# Altium integrated library TI Power Management Step-Down Regulator.IntLib: 565 symbols (part 5 of 33)
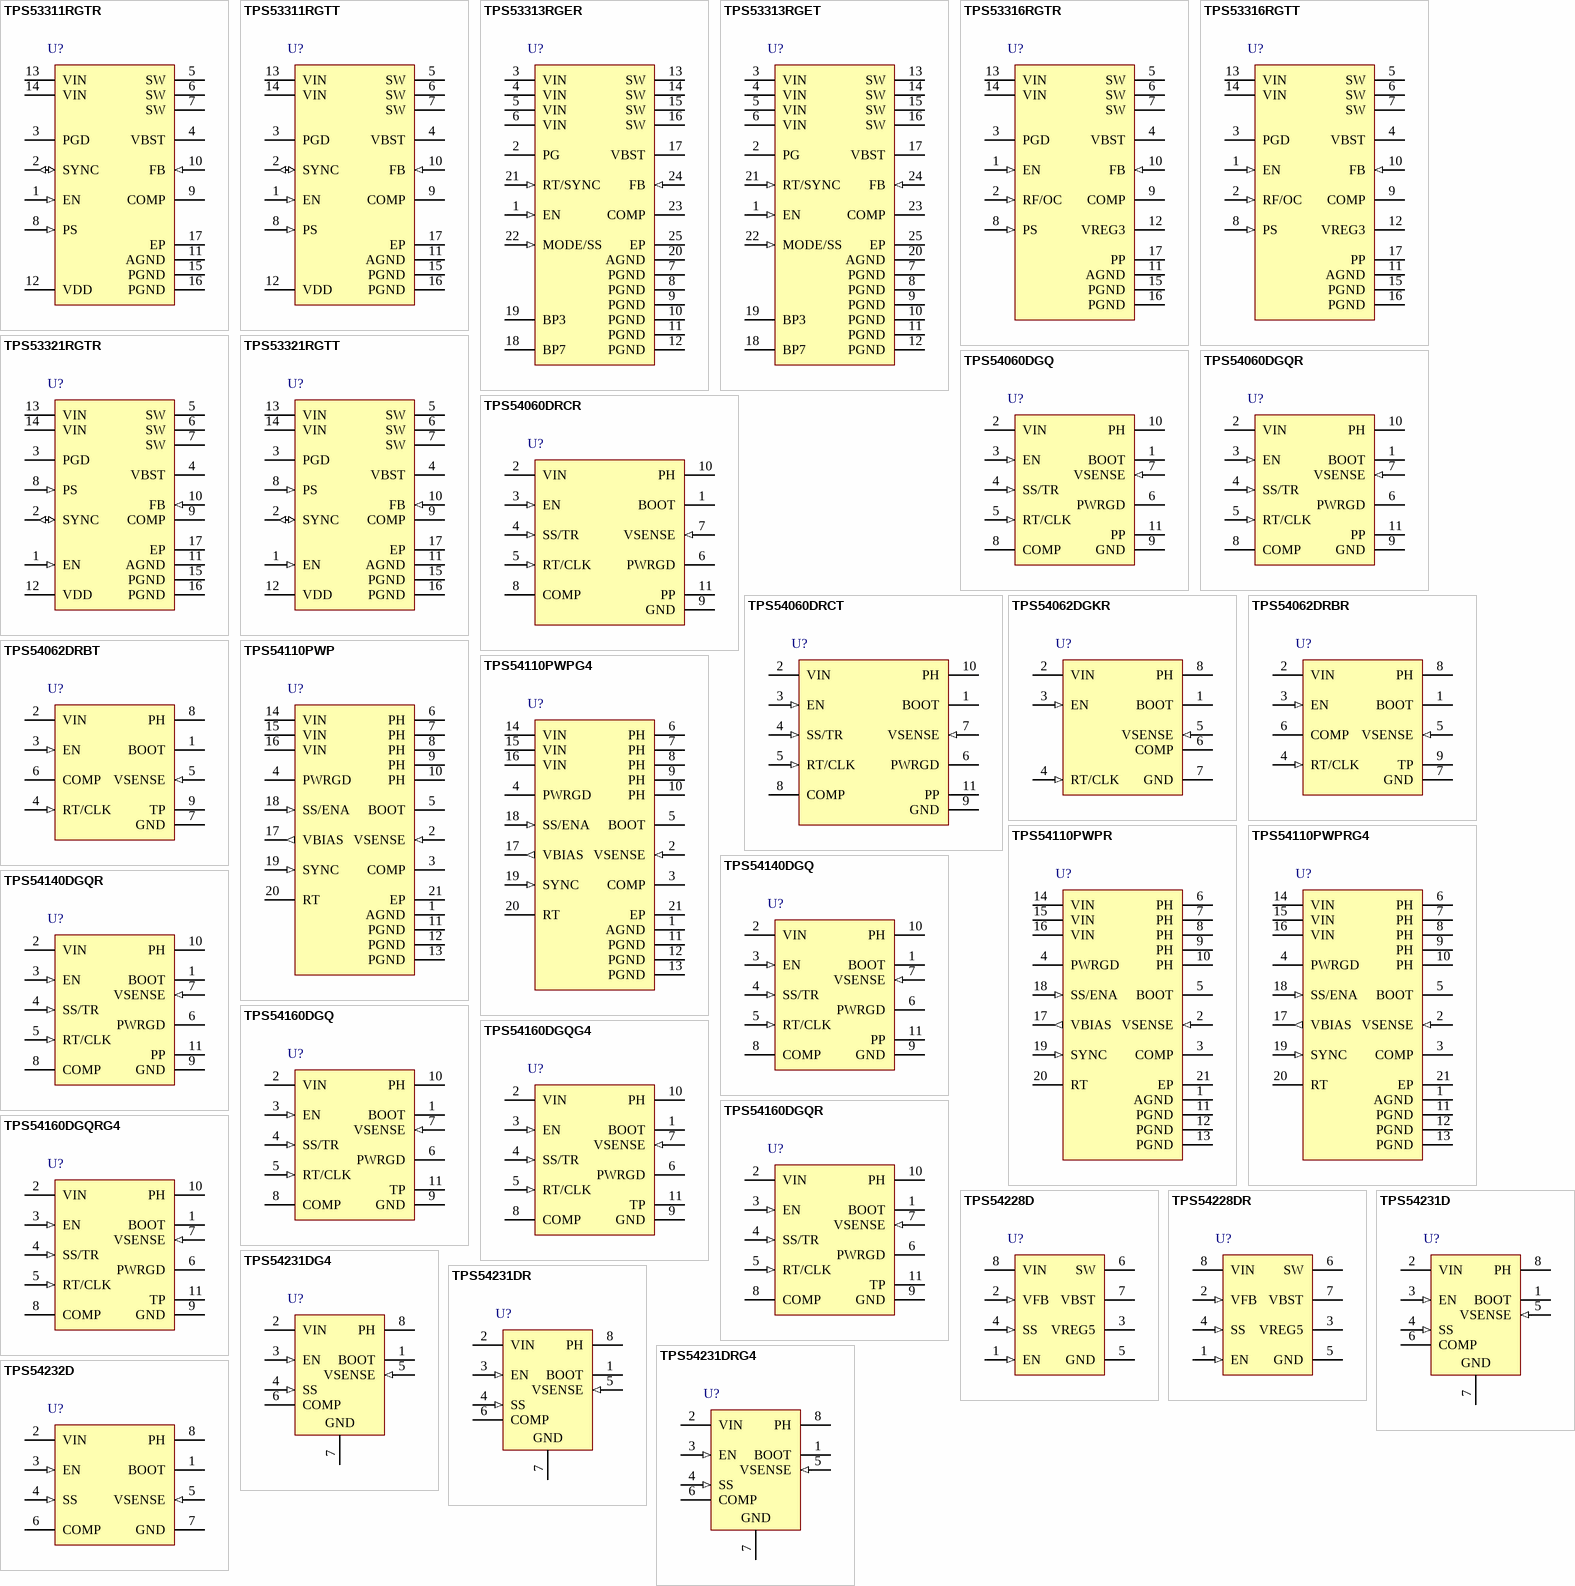
[diagram p23: symbols TPS53311RGTR to TPS54232D]

## TPS54062DRBT
designator U?
Buck Step Down Regulator with 4.7 to 60 V Input and 0.8 to 58 V Output, -40 to 125 degC, 8-Pin SON (DRB), Green (RoHS & no Sb/Br); Manufacturer: Texas Instruments; PartNumber: TPS54062DRBT; Duty Cycle(Max)(%): 98; Iout(Max)(A): 0.05; Iq(Typ)(mA): 0.089; Rating: Catalog; Regulated Outputs(#): 1; SubFamily: Step-Down Regulator; Switch Current Limit(Typ)(A): 0.13; Synchronous Rectification: TRUE; Vin(Max)(V): 60; Vin(Min)(V): 4.7; Vout(Max)(V): 58; Vout(Min)(V): 0.8; DatasheetVersion: SLVSAV1B; PackageVersion: revK, Jun-2012; PackageReference: DRB8-2400X1650TP; PackageDescription: 8-Pin Plastic Small Outline No-Lead, 3 x 3 x 1 mm Body, 0.65 mm Pitch, Exposed Pad; Supplier 1: Digi-Key; Supplier Part Number 1: 296-30078-2-ND; Supplier 7: Mouser; Supplier Part Number 7: 595-TPS54062DRBT; Eco-Plan: Green (RoHS & no Sb/Br); Topology: Buck; Mounting Technology: Surface Mount; ComponentLink1Description: Datasheet; ComponentLink1URL: http://www.ti.com/general/docs/lit/getliterature.tsp?genericPartNumber=TPS54062&fileType=pdf; ComponentLink2Description: Package Specification; ComponentLink2URL: http://www.ti.com/litv/pdf/mpds118h; ComponentLink3Description: URL Link1; ComponentLink3URL: Samples URL:http://www.ti.com/product/tps54611#samples
footprint DRB8-2400X1650TP (SON, 8-Leads, Body 3x3mm, Pitch 0.65mm, Thermal Pad 2.4x1.65mm, TI Recommended)
pins: 1 BOOT "A bootstrap capacitor is required between BOOT and PH. If the voltage on this capacitor is below the minimum required by the output device, the output is forced to switch off until the capacitor is refreshed.", 2 VIN (power) "Input supply voltage, 4.7 V to 60 V.", 3 EN (in) "Enable pin, internal pull-up current source. Pull below 1.14 V to disable. Float to enable. Adjust the input undervoltage lockout with two resistors, see the Enable and Adjusting Undervoltage Lockout section", 4 RT/CLK (in) "Resistor Timing and External Clock. An internal amplifier holds this pin at a fixed voltage when using an external resistor to ground to set the switching frequency. If the pin is pulled above the PLL upper threshold, a mode (See Datasheet)", 5 VSENSE (in) "Inverting input of the transconductance (gm) error amplifier.", 6 COMP "Error amplifier output, and input to the output switch current comparator. Connect frequency compensation components to this pin.", 7 GND (power) "Ground", 8 PH (power) "The source of the internal high-side power MOSFET and drain of the internal low side MOSFET", 9 TP (power) "GND pin must be electrically connected to the exposed pad on the printed circuit board for proper operation."

## TPS54110PWP
designator U?
Buck Step Down Regulator with 3 to 6 V Input and 0.9 to 4.5 V Output, -40 to 85 degC, 20-Pin HTSSOP (PWP), Green (RoHS & no Sb/Br); Manufacturer: Texas Instruments; PartNumber: TPS54110PWP; Duty Cycle(Max)(%): 90; Iout(Max)(A): 1.5; Iq(Typ)(mA): 4.2; Rating: Catalog; Regulated Outputs(#): 1; SubFamily: Step-Down Regulator; Switch Current Limit(Typ)(A): 3; Synchronous Rectification: TRUE; Vin(Max)(V): 6; Vout(Max)(V): 4.5; Vout(Min)(V): 0.9; DatasheetVersion: SLVS500C; PackageVersion: revI, May-2011; PackageReference: PWP20-3005X2005TP; PackageDescription: 20-Pin PowerPAD Plastic Small Outline 6.5 x 4.4 mm Body ,0.65 mm Pitch, Exposed Pad; Supplier 1: Digi-Key; Supplier Part Number 1: 296-17086-ND; Eco-Plan: Green (RoHS & no Sb/Br); Topology: Buck; Vin(Min)(V): 3; Mounting Technology: Surface Mount; Code_JEDEC: MO-153; ComponentLink1Description: Datasheet; ComponentLink1URL: http://www.ti.com/general/docs/lit/getliterature.tsp?genericPartNumber=TPS54110&fileType=pdf; ComponentLink2Description: Package Specification; ComponentLink2URL: http://www.ti.com/lit/ml/mhts001g/mhts001g.pdf; ComponentLink3Description: URL Link1; ComponentLink3URL: Samples URL:http://www.ti.com/product/tps54110#samples
footprint PWP20-3005X2005TP_N (TSOP, 20-Leads, Body 6.5x4.4mm, Pitch 0.65mm, Thermal Pad 3.7x2.4 mm, IPC Medium Density)
footprint PWP20-3005X2005TP_L (TSOP, 20-Leads, Body 6.5x4.4mm, Pitch 0.65mm, Thermal Pad 3.7x2.4 mm, IPC High Density)
footprint PWP20-3005X2005TP_M (TSOP, 20-Leads, Body 6.5x4.4mm, Pitch 0.65mm, Thermal Pad 3.7x2.4 mm, IPC Low Density)
pins: 1 AGND (power) "Analog ground--internally connected to the sensitive analog-ground circuitry. Connect to PGND and PowerPAD.", 2 VSENSE (in) "Error amplifier inverting input.", 3 COMP "Error amplifier output. Connect compensation network from COMP to VSENSE.", 4 PWRGD (oc) "Power-good open drain output. High when VSENSE >= 93% Vref, otherwise PWRGD is low. Note that output is low when SS/ENA is low or internal shutdown signal active.", 5 BOOT "Bootstrap input. 0.022-uF to 0.1-uF low-ESR capacitor connected from BOOT to PH generates floating drive for the high-side FET driver.", 6 PH (power) "Phase input/output. Junction of the internal high and low-side power MOSFETs, and output inductor.", 7 PH (power) "Phase input/output. Junction of the internal high and low-side power MOSFETs, and output inductor.", 8 PH (power) "Phase input/output. Junction of the internal high and low-side power MOSFETs, and output inductor.", 9 PH (power) "Phase input/output. Junction of the internal high and low-side power MOSFETs, and output inductor.", 10 PH (power) "Phase input/output. Junction of the internal high and low-side power MOSFETs, and output inductor.", 11 PGND (power) "Power ground. High current return for the low-side driver and power MOSFET. Connect PGND with large copper areas to the input and output supply returns, and negative terminals of the input and output capacitors. Connect to (See Datasheet)", 12 PGND (power) "Power ground. High current return for the low-side driver and power MOSFET. Connect PGND with large copper areas to the input and output supply returns, and negative terminals of the input and output capacitors. Connect to (See Datasheet)", 13 PGND (power) "Power ground. High current return for the low-side driver and power MOSFET. Connect PGND with large copper areas to the input and output supply returns, and negative terminals of the input and output capacitors. Connect to (See Datasheet)", 14 VIN (power) "Input supply for the power MOSFET switches and internal bias regulator. Bypass VIN pins to PGND pins close to device package with a high quality, low ESR 1-uF to 10-uF ceramic capacitor.", 15 VIN (power) "Input supply for the power MOSFET switches and internal bias regulator. Bypass VIN pins to PGND pins close to device package with a high quality, low ESR 1-uF to 10-uF ceramic capacitor.", 16 VIN (power) "Input supply for the power MOSFET switches and internal bias regulator. Bypass VIN pins to PGND pins close to device package with a high quality, low ESR 1-uF to 10-uF ceramic capacitor.", 17 VBIAS (out) "Internal bias regulator output. Supplies regulated voltage to internal circuitry. Bypass VBIAS pin to AGND pin with a high quality, low ESR 0.1-uF to 1.0-uF ceramic capacitor.", 18 SS/ENA (in) "Slow-start/enable input/output. Dual-function pin that provides logic input to enable/disable device operation and capacitor input to externally set the start-up time.", 19 SYNC (in) "Synchronization input. Dual-function pin that provides logic input to synchronize to an external oscillator or pin select between two internally set switching frequencies. When used to synchronize to an external signal, a (See Datasheet)", 20 RT "Frequency setting resistor input. Connect a resistor from RT to AGND to set the switching frequency, fs.", 21 EP (power) "exposed Thermal Pad."

## TPS54110PWPG4
designator U?
Buck Step Down Regulator with 3 to 6 V Input and 0.9 to 4.5 V Output, -40 to 85 degC, 20-Pin HTSSOP (PWP), Green (RoHS & no Sb/Br); Manufacturer: Texas Instruments; PartNumber: TPS54110PWPG4; Duty Cycle(Max)(%): 90; Iout(Max)(A): 1.5; Iq(Typ)(mA): 4.2; Rating: Catalog; Regulated Outputs(#): 1; SubFamily: Step-Down Regulator; Switch Current Limit(Typ)(A): 3; Synchronous Rectification: TRUE; Vin(Max)(V): 6; Vout(Max)(V): 4.5; Vout(Min)(V): 0.9; DatasheetVersion: SLVS500C; PackageVersion: revI, May-2011; PackageReference: PWP20-3005X2005TP; PackageDescription: 20-Pin PowerPAD Plastic Small Outline 6.5 x 4.4 mm Body ,0.65 mm Pitch, Exposed Pad; Supplier 1: Digi-Key; Supplier Part Number 1: TPS54110PWPG4-ND; Eco-Plan: Green (RoHS & no Sb/Br); Topology: Buck; Vin(Min)(V): 3; Mounting Technology: Surface Mount; Code_JEDEC: MO-153; ComponentLink1Description: Datasheet; ComponentLink1URL: http://www.ti.com/general/docs/lit/getliterature.tsp?genericPartNumber=TPS54110&fileType=pdf; ComponentLink2Description: Package Specification; ComponentLink2URL: http://www.ti.com/lit/ml/mhts001g/mhts001g.pdf; ComponentLink3Description: URL Link1; ComponentLink3URL: Samples URL:http://www.ti.com/product/tps54110#samples
footprint PWP20-3005X2005TP_N (TSOP, 20-Leads, Body 6.5x4.4mm, Pitch 0.65mm, Thermal Pad 3.7x2.4 mm, IPC Medium Density)
footprint PWP20-3005X2005TP_L (TSOP, 20-Leads, Body 6.5x4.4mm, Pitch 0.65mm, Thermal Pad 3.7x2.4 mm, IPC High Density)
footprint PWP20-3005X2005TP_M (TSOP, 20-Leads, Body 6.5x4.4mm, Pitch 0.65mm, Thermal Pad 3.7x2.4 mm, IPC Low Density)
pins: 1 AGND (power) "Analog ground--internally connected to the sensitive analog-ground circuitry. Connect to PGND and PowerPAD.", 2 VSENSE (in) "Error amplifier inverting input.", 3 COMP "Error amplifier output. Connect compensation network from COMP to VSENSE.", 4 PWRGD (oc) "Power-good open drain output. High when VSENSE >= 93% Vref, otherwise PWRGD is low. Note that output is low when SS/ENA is low or internal shutdown signal active.", 5 BOOT "Bootstrap input. 0.022-uF to 0.1-uF low-ESR capacitor connected from BOOT to PH generates floating drive for the high-side FET driver.", 6 PH (power) "Phase input/output. Junction of the internal high and low-side power MOSFETs, and output inductor.", 7 PH (power) "Phase input/output. Junction of the internal high and low-side power MOSFETs, and output inductor.", 8 PH (power) "Phase input/output. Junction of the internal high and low-side power MOSFETs, and output inductor.", 9 PH (power) "Phase input/output. Junction of the internal high and low-side power MOSFETs, and output inductor.", 10 PH (power) "Phase input/output. Junction of the internal high and low-side power MOSFETs, and output inductor.", 11 PGND (power) "Power ground. High current return for the low-side driver and power MOSFET. Connect PGND with large copper areas to the input and output supply returns, and negative terminals of the input and output capacitors. Connect to (See Datasheet)", 12 PGND (power) "Power ground. High current return for the low-side driver and power MOSFET. Connect PGND with large copper areas to the input and output supply returns, and negative terminals of the input and output capacitors. Connect to (See Datasheet)", 13 PGND (power) "Power ground. High current return for the low-side driver and power MOSFET. Connect PGND with large copper areas to the input and output supply returns, and negative terminals of the input and output capacitors. Connect to (See Datasheet)", 14 VIN (power) "Input supply for the power MOSFET switches and internal bias regulator. Bypass VIN pins to PGND pins close to device package with a high quality, low ESR 1-uF to 10-uF ceramic capacitor.", 15 VIN (power) "Input supply for the power MOSFET switches and internal bias regulator. Bypass VIN pins to PGND pins close to device package with a high quality, low ESR 1-uF to 10-uF ceramic capacitor.", 16 VIN (power) "Input supply for the power MOSFET switches and internal bias regulator. Bypass VIN pins to PGND pins close to device package with a high quality, low ESR 1-uF to 10-uF ceramic capacitor.", 17 VBIAS (out) "Internal bias regulator output. Supplies regulated voltage to internal circuitry. Bypass VBIAS pin to AGND pin with a high quality, low ESR 0.1-uF to 1.0-uF ceramic capacitor.", 18 SS/ENA (in) "Slow-start/enable input/output. Dual-function pin that provides logic input to enable/disable device operation and capacitor input to externally set the start-up time.", 19 SYNC (in) "Synchronization input. Dual-function pin that provides logic input to synchronize to an external oscillator or pin select between two internally set switching frequencies. When used to synchronize to an external signal, a (See Datasheet)", 20 RT "Frequency setting resistor input. Connect a resistor from RT to AGND to set the switching frequency, fs.", 21 EP (power) "exposed Thermal Pad."

## TPS54110PWPR
designator U?
Buck Step Down Regulator with 3 to 6 V Input and 0.9 to 4.5 V Output, -40 to 85 degC, 20-Pin HTSSOP (PWP), Green (RoHS & no Sb/Br); Manufacturer: Texas Instruments; PartNumber: TPS54110PWPR; Duty Cycle(Max)(%): 90; Iout(Max)(A): 1.5; Iq(Typ)(mA): 4.2; Rating: Catalog; Regulated Outputs(#): 1; SubFamily: Step-Down Regulator; Switch Current Limit(Typ)(A): 3; Synchronous Rectification: TRUE; Vin(Max)(V): 6; Vout(Max)(V): 4.5; Vout(Min)(V): 0.9; DatasheetVersion: SLVS500C; PackageVersion: revI, May-2011; PackageReference: PWP20-3005X2005TP; PackageDescription: 20-Pin PowerPAD Plastic Small Outline 6.5 x 4.4 mm Body ,0.65 mm Pitch, Exposed Pad; Supplier 1: Digi-Key; Supplier Part Number 1: 296-26983-2-ND; Eco-Plan: Green (RoHS & no Sb/Br); Topology: Buck; Vin(Min)(V): 3; Mounting Technology: Surface Mount; Code_JEDEC: MO-153; ComponentLink1Description: Datasheet; ComponentLink1URL: http://www.ti.com/general/docs/lit/getliterature.tsp?genericPartNumber=TPS54110&fileType=pdf; ComponentLink2Description: Package Specification; ComponentLink2URL: http://www.ti.com/lit/ml/mhts001g/mhts001g.pdf; ComponentLink3Description: URL Link1; ComponentLink3URL: Samples URL:http://www.ti.com/product/tps54110#samples
footprint PWP20-3005X2005TP_N (TSOP, 20-Leads, Body 6.5x4.4mm, Pitch 0.65mm, Thermal Pad 3.7x2.4 mm, IPC Medium Density)
footprint PWP20-3005X2005TP_L (TSOP, 20-Leads, Body 6.5x4.4mm, Pitch 0.65mm, Thermal Pad 3.7x2.4 mm, IPC High Density)
footprint PWP20-3005X2005TP_M (TSOP, 20-Leads, Body 6.5x4.4mm, Pitch 0.65mm, Thermal Pad 3.7x2.4 mm, IPC Low Density)
pins: 1 AGND (power) "Analog ground--internally connected to the sensitive analog-ground circuitry. Connect to PGND and PowerPAD.", 2 VSENSE (in) "Error amplifier inverting input.", 3 COMP "Error amplifier output. Connect compensation network from COMP to VSENSE.", 4 PWRGD (oc) "Power-good open drain output. High when VSENSE >= 93% Vref, otherwise PWRGD is low. Note that output is low when SS/ENA is low or internal shutdown signal active.", 5 BOOT "Bootstrap input. 0.022-uF to 0.1-uF low-ESR capacitor connected from BOOT to PH generates floating drive for the high-side FET driver.", 6 PH (power) "Phase input/output. Junction of the internal high and low-side power MOSFETs, and output inductor.", 7 PH (power) "Phase input/output. Junction of the internal high and low-side power MOSFETs, and output inductor.", 8 PH (power) "Phase input/output. Junction of the internal high and low-side power MOSFETs, and output inductor.", 9 PH (power) "Phase input/output. Junction of the internal high and low-side power MOSFETs, and output inductor.", 10 PH (power) "Phase input/output. Junction of the internal high and low-side power MOSFETs, and output inductor.", 11 PGND (power) "Power ground. High current return for the low-side driver and power MOSFET. Connect PGND with large copper areas to the input and output supply returns, and negative terminals of the input and output capacitors. Connect to (See Datasheet)", 12 PGND (power) "Power ground. High current return for the low-side driver and power MOSFET. Connect PGND with large copper areas to the input and output supply returns, and negative terminals of the input and output capacitors. Connect to (See Datasheet)", 13 PGND (power) "Power ground. High current return for the low-side driver and power MOSFET. Connect PGND with large copper areas to the input and output supply returns, and negative terminals of the input and output capacitors. Connect to (See Datasheet)", 14 VIN (power) "Input supply for the power MOSFET switches and internal bias regulator. Bypass VIN pins to PGND pins close to device package with a high quality, low ESR 1-uF to 10-uF ceramic capacitor.", 15 VIN (power) "Input supply for the power MOSFET switches and internal bias regulator. Bypass VIN pins to PGND pins close to device package with a high quality, low ESR 1-uF to 10-uF ceramic capacitor.", 16 VIN (power) "Input supply for the power MOSFET switches and internal bias regulator. Bypass VIN pins to PGND pins close to device package with a high quality, low ESR 1-uF to 10-uF ceramic capacitor.", 17 VBIAS (out) "Internal bias regulator output. Supplies regulated voltage to internal circuitry. Bypass VBIAS pin to AGND pin with a high quality, low ESR 0.1-uF to 1.0-uF ceramic capacitor.", 18 SS/ENA (in) "Slow-start/enable input/output. Dual-function pin that provides logic input to enable/disable device operation and capacitor input to externally set the start-up time.", 19 SYNC (in) "Synchronization input. Dual-function pin that provides logic input to synchronize to an external oscillator or pin select between two internally set switching frequencies. When used to synchronize to an external signal, a (See Datasheet)", 20 RT "Frequency setting resistor input. Connect a resistor from RT to AGND to set the switching frequency, fs.", 21 EP (power) "exposed Thermal Pad."

## TPS54110PWPRG4
designator U?
Buck Step Down Regulator with 3 to 6 V Input and 0.9 to 4.5 V Output, -40 to 85 degC, 20-Pin HTSSOP (PWP), Green (RoHS & no Sb/Br); Manufacturer: Texas Instruments; PartNumber: TPS54110PWPRG4; Duty Cycle(Max)(%): 90; Iout(Max)(A): 1.5; Iq(Typ)(mA): 4.2; Rating: Catalog; Regulated Outputs(#): 1; SubFamily: Step-Down Regulator; Switch Current Limit(Typ)(A): 3; Synchronous Rectification: TRUE; Vin(Max)(V): 6; Vout(Max)(V): 4.5; Vout(Min)(V): 0.9; DatasheetVersion: SLVS500C; PackageVersion: revI, May-2011; PackageReference: PWP20-3005X2005TP; PackageDescription: 20-Pin PowerPAD Plastic Small Outline 6.5 x 4.4 mm Body ,0.65 mm Pitch, Exposed Pad; Supplier 1: Digi-Key; Supplier Part Number 1: TPS54110PWPRG4-ND; Eco-Plan: Green (RoHS & no Sb/Br); Topology: Buck; Vin(Min)(V): 3; Mounting Technology: Surface Mount; Code_JEDEC: MO-153; ComponentLink1Description: Datasheet; ComponentLink1URL: http://www.ti.com/general/docs/lit/getliterature.tsp?genericPartNumber=TPS54110&fileType=pdf; ComponentLink2Description: Package Specification; ComponentLink2URL: http://www.ti.com/lit/ml/mhts001g/mhts001g.pdf; ComponentLink3Description: URL Link1; ComponentLink3URL: Samples URL:http://www.ti.com/product/tps54611#samples
footprint PWP20-3005X2005TP_N (TSOP, 20-Leads, Body 6.5x4.4mm, Pitch 0.65mm, Thermal Pad 3.7x2.4 mm, IPC Medium Density)
footprint PWP20-3005X2005TP_L (TSOP, 20-Leads, Body 6.5x4.4mm, Pitch 0.65mm, Thermal Pad 3.7x2.4 mm, IPC High Density)
footprint PWP20-3005X2005TP_M (TSOP, 20-Leads, Body 6.5x4.4mm, Pitch 0.65mm, Thermal Pad 3.7x2.4 mm, IPC Low Density)
pins: 1 AGND (power) "Analog ground--internally connected to the sensitive analog-ground circuitry. Connect to PGND and PowerPAD.", 2 VSENSE (in) "Error amplifier inverting input.", 3 COMP "Error amplifier output. Connect compensation network from COMP to VSENSE.", 4 PWRGD (oc) "Power-good open drain output. High when VSENSE >= 93% Vref, otherwise PWRGD is low. Note that output is low when SS/ENA is low or internal shutdown signal active.", 5 BOOT "Bootstrap input. 0.022-uF to 0.1-uF low-ESR capacitor connected from BOOT to PH generates floating drive for the high-side FET driver.", 6 PH (power) "Phase input/output. Junction of the internal high and low-side power MOSFETs, and output inductor.", 7 PH (power) "Phase input/output. Junction of the internal high and low-side power MOSFETs, and output inductor.", 8 PH (power) "Phase input/output. Junction of the internal high and low-side power MOSFETs, and output inductor.", 9 PH (power) "Phase input/output. Junction of the internal high and low-side power MOSFETs, and output inductor.", 10 PH (power) "Phase input/output. Junction of the internal high and low-side power MOSFETs, and output inductor.", 11 PGND (power) "Power ground. High current return for the low-side driver and power MOSFET. Connect PGND with large copper areas to the input and output supply returns, and negative terminals of the input and output capacitors. Connect to (See Datasheet)", 12 PGND (power) "Power ground. High current return for the low-side driver and power MOSFET. Connect PGND with large copper areas to the input and output supply returns, and negative terminals of the input and output capacitors. Connect to (See Datasheet)", 13 PGND (power) "Power ground. High current return for the low-side driver and power MOSFET. Connect PGND with large copper areas to the input and output supply returns, and negative terminals of the input and output capacitors. Connect to (See Datasheet)", 14 VIN (power) "Input supply for the power MOSFET switches and internal bias regulator. Bypass VIN pins to PGND pins close to device package with a high quality, low ESR 1-uF to 10-uF ceramic capacitor.", 15 VIN (power) "Input supply for the power MOSFET switches and internal bias regulator. Bypass VIN pins to PGND pins close to device package with a high quality, low ESR 1-uF to 10-uF ceramic capacitor.", 16 VIN (power) "Input supply for the power MOSFET switches and internal bias regulator. Bypass VIN pins to PGND pins close to device package with a high quality, low ESR 1-uF to 10-uF ceramic capacitor.", 17 VBIAS (out) "Internal bias regulator output. Supplies regulated voltage to internal circuitry. Bypass VBIAS pin to AGND pin with a high quality, low ESR 0.1-uF to 1.0-uF ceramic capacitor.", 18 SS/ENA (in) "Slow-start/enable input/output. Dual-function pin that provides logic input to enable/disable device operation and capacitor input to externally set the start-up time.", 19 SYNC (in) "Synchronization input. Dual-function pin that provides logic input to synchronize to an external oscillator or pin select between two internally set switching frequencies. When used to synchronize to an external signal, a (See Datasheet)", 20 RT "Frequency setting resistor input. Connect a resistor from RT to AGND to set the switching frequency, fs.", 21 EP (power) "exposed Thermal Pad."

## TPS54140DGQ
designator U?
Buck Inverting Buck-Boost Step Down Regulator with 3.5 to 42 V Input and 0.8 to 39 V Output, -40 to 150 degC, 10-Pin MSOP-PowerPAD (DGQ), Green (RoHS & no Sb/Br); Manufacturer: Texas Instruments; PartNumber: TPS54140DGQ; Duty Cycle(Max)(%): 98; Iout(Max)(A): 1.5; Iq(Typ)(mA): 0.116; Rating: Catalog; Regulated Outputs(#): 1; SubFamily: Step-Down Regulator; Switch Current Limit(Typ)(A): 1.8; Topology: Buck, Inverting Buck-Boost; Vin(Max)(V): 42; Vin(Min)(V): 3.5; Vout(Max)(V): 39; Vout(Min)(V): 0.8; DatasheetVersion: SLVS889A; PackageVersion: revF, Nov-2011; PackageReference: DGQ10-1675X1445TP; PackageDescription: 10-Pin PowerPAD Plastic Small Outline 0.5 mm Pitch, Exposed Pad; Supplier 1: Digi-Key; Supplier Part Number 1: 296-23970-5-ND; Eco-Plan: Green (RoHS & no Sb/Br); Mounting Technology: Surface Mount; Code_JEDEC: MO-187-BA-T; ComponentLink1Description: Datasheet; ComponentLink1URL: http://www.ti.com/general/docs/lit/getliterature.tsp?genericPartNumber=TPS54140&fileType=pdf; ComponentLink2Description: Package Specification; ComponentLink2URL: http://www.ti.com/lit/ml/mpds043e/mpds043e.pdf; ComponentLink3Description: URL Link1; ComponentLink3URL: Samples URL:http://www.ti.com/product/tps54140#samples
footprint DGQ10-1675X1445TP_N (TSSOP, 10-Leads, Body 3x3mm, Pitch 0.5mm, Thermal Pad 1.88x1.57mm, IPC Medium Density)
footprint DGQ10-1675X1445TP_L (TSSOP, 10-Leads, Body 3x3mm, Pitch 0.5mm, Thermal Pad 1.88x1.57mm, IPC High Density)
footprint DGQ10-1675X1445TP_M (TSSOP, 10-Leads, Body 3x3mm, Pitch 0.5mm, Thermal Pad 1.88x1.57mm, IPC Low Density)
pins: 1 BOOT "A bootstrap capacitor is required between BOOT and PH. If the voltage on this capacitor is below the minimum required by the device, the output is forced to switch off until the capacitor is refreshed.", 2 VIN (power) "Input supply voltage, 3.5 V to 42 V.", 3 EN (in) "Enable pin, internal pull-up current source. Pull below 1.2V to disable. Float to enable. Adjust the input undervoltage lockout with two resistors.", 4 SS/TR (in) "Slow-start and Tracking. An external capacitor connected to this pin sets the output rise time. Since the voltage on this pin overrides the internal reference, it can be used for tracking and sequencing.", 5 RT/CLK (in) "Resistor Timing and External Clock. An internal amplifier holds this pin at a fixed voltage when using an external resistor to ground to set the switching frequency. If the pin is pulled above the PLL upper threshold,a mode (See Datasheet)", 6 PWRGD (oc) "An open drain output, asserts low if output voltage is low due to thermal shutdown, dropout, over-voltage or EN shut down.", 7 VSENSE (in) "Inverting node of the transconductance ( gm) error amplifier.", 8 COMP "Error amplifier output, and input to the output switch current comparator. Connect frequency compensation components to this pin.", 9 GND (power) "Ground", 10 PH (power) "The source of the internal high-side power MOSFET.", 11 PP (power) "GND pin must be electrically connected to the exposed pad on the printed circuit board for proper operation."

## TPS54140DGQR
designator U?
Buck Inverting Buck-Boost Step Down Regulator with 3.5 to 42 V Input and 0.8 to 39 V Output, -40 to 150 degC, 10-Pin MSOP-PowerPAD (DGQ), Green (RoHS & no Sb/Br); Manufacturer: Texas Instruments; PartNumber: TPS54140DGQR; Duty Cycle(Max)(%): 98; Iout(Max)(A): 1.5; Iq(Typ)(mA): 0.116; Rating: Catalog; Regulated Outputs(#): 1; SubFamily: Step-Down Regulator; Switch Current Limit(Typ)(A): 7.2; Topology: Buck,Inverting Buck-Boost; Vin(Max)(V): 42; Vin(Min)(V): 3.5; Vout(Max)(V): 39; Vout(Min)(V): 0.8; DatasheetVersion: SLVS889A; PackageVersion: revF, Nov-2011; PackageReference: DGQ10-1675X1445TP; PackageDescription: 10-Pin PowerPAD Plastic Small Outline 0.5 mm Pitch, Exposed Pad; Supplier 1: Digi-Key; Supplier Part Number 1: TPS54140DGQR-ND; Eco-Plan: Green (RoHS & no Sb/Br); Mounting Technology: Surface Mount; Code_JEDEC: MO-187-BA-T; ComponentLink1Description: Datasheet; ComponentLink1URL: http://www.ti.com/general/docs/lit/getliterature.tsp?genericPartNumber=TPS54140&fileType=pdf; ComponentLink2Description: Package Specification; ComponentLink2URL: http://www.ti.com/lit/ml/mpds043e/mpds043e.pdf; ComponentLink3Description: URL Link1; ComponentLink3URL: Samples URL:http://www.ti.com/product/tps54611#samples
footprint DGQ10-1675X1445TP_N (TSSOP, 10-Leads, Body 3x3mm, Pitch 0.5mm, Thermal Pad 1.88x1.57mm, IPC Medium Density)
footprint DGQ10-1675X1445TP_L (TSSOP, 10-Leads, Body 3x3mm, Pitch 0.5mm, Thermal Pad 1.88x1.57mm, IPC High Density)
footprint DGQ10-1675X1445TP_M (TSSOP, 10-Leads, Body 3x3mm, Pitch 0.5mm, Thermal Pad 1.88x1.57mm, IPC Low Density)
pins: 1 BOOT "A bootstrap capacitor is required between BOOT and PH. If the voltage on this capacitor is below the minimum required by the device, the output is forced to switch off until the capacitor is refreshed.", 2 VIN (power) "Input supply voltage, 3.5 V to 42 V.", 3 EN (in) "Enable pin, internal pull-up current source. Pull below 1.2V to disable. Float to enable. Adjust the input undervoltage lockout with two resistors.", 4 SS/TR (in) "Slow-start and Tracking. An external capacitor connected to this pin sets the output rise time. Since the voltage on this pin overrides the internal reference, it can be used for tracking and sequencing.", 5 RT/CLK (in) "Resistor Timing and External Clock. An internal amplifier holds this pin at a fixed voltage when using an external resistor to ground to set the switching frequency. If the pin is pulled above the PLL upper threshold,a mode (See Datasheet)", 6 PWRGD (oc) "An open drain output, asserts low if output voltage is low due to thermal shutdown, dropout, over-voltage or EN shut down.", 7 VSENSE (in) "Inverting node of the transconductance ( gm) error amplifier.", 8 COMP "Error amplifier output, and input to the output switch current comparator. Connect frequency compensation components to this pin.", 9 GND (power) "Ground", 10 PH (power) "The source of the internal high-side power MOSFET.", 11 PP (power) "GND pin must be electrically connected to the exposed pad on the printed circuit board for proper operation."

## TPS54160DGQ
designator U?
Buck Inverting Buck-Boost Step Down Regulator with 3.5 to 60 V Input and 0.8 to 58 V Output, -40 to 150 degC, 10-Pin MSOP-PowerPAD (DGQ), Green (RoHS & no Sb/Br); Manufacturer: Texas Instruments; PartNumber: TPS54160DGQ; Duty Cycle(Max)(%): 98; Iout(Max)(A): 1.5; Iq(Typ)(mA): 0.116; Rating: Catalog; Regulated Outputs(#): 1; SubFamily: Step-Down Regulator; Switch Current Limit(Typ)(A): 1.8; Topology: Buck, Inverting Buck-Boost; Vin(Max)(V): 60; Vin(Min)(V): 3.5; Vout(Max)(V): 58; Vout(Min)(V): 0.8; DatasheetVersion: SLVS795D; PackageVersion: revF, Nov-2011; PackageReference: DGQ10-1675X1445TP; PackageDescription: 10-Pin PowerPAD Plastic Small Outline 0.5 mm Pitch, Exposed Pad; Supplier 1: Digi-Key; Supplier Part Number 1: 296-23864-5-ND; Eco-Plan: Green (RoHS & no Sb/Br); Mounting Technology: Surface Mount; Code_JEDEC: MO-187-BA-T; ComponentLink1Description: Datasheet; ComponentLink1URL: http://www.ti.com/general/docs/lit/getliterature.tsp?genericPartNumber=TPS54160&fileType=pdf; ComponentLink2Description: Package Specification; ComponentLink2URL: http://www.ti.com/lit/ml/mpds043e/mpds043e.pdf; ComponentLink3Description: URL Link1; ComponentLink3URL: Samples URL:http://www.ti.com/product/tps54160#samples
footprint DGQ10-1675X1445TP_N (TSSOP, 10-Leads, Body 3x3mm, Pitch 0.5mm, Thermal Pad 1.88x1.57mm, IPC Medium Density)
footprint DGQ10-1675X1445TP_L (TSSOP, 10-Leads, Body 3x3mm, Pitch 0.5mm, Thermal Pad 1.88x1.57mm, IPC High Density)
footprint DGQ10-1675X1445TP_M (TSSOP, 10-Leads, Body 3x3mm, Pitch 0.5mm, Thermal Pad 1.88x1.57mm, IPC Low Density)
pins: 1 BOOT "A bootstrap capacitor is required between BOOT and PH. If the voltage on this capacitor is below the minimum required by the output device, the output is forced to switch off until the capacitor is refreshed.", 2 VIN (power) "Input supply voltage, 3.5 V to 60 V.", 3 EN (in) "Enable pin, internal pull-up current source. Pull below 1.2V to disable. Float to enable. Adjust the input undervoltage lockout with two resistors.", 4 SS/TR (in) "Slow-start and Tracking. An external capacitor connected to this pin sets the output rise time. Since the voltage on this pin overrides the internal reference, it can be used for tracking and sequencing.", 5 RT/CLK (in) "Resistor Timing and External Clock. An internal amplifier holds this pin at a fixed voltage when using an external resistor to ground to set the switching frequency. If the pin is pulled above the PLL upper threshold, a mode (See Datasheet)", 6 PWRGD (oc) "An open drain output, asserts low if output voltage is low due to thermal shutdown, dropout, over-voltage or EN shut down.", 7 VSENSE (in) "Inverting node of the transconductance ( gm) error amplifier.", 8 COMP "Error amplifier output, and input to the output switch current comparator. Connect frequency compensation components to this pin.", 9 GND (power) "Ground pin. Power ground return for switching circuit. Connect sensitive SS and VFB returns to GND at a single point.", 10 PH (power) "The source of the internal high-side power MOSFET.", 11 TP (power) "GND pin must be electrically connected to the exposed pad on the printed circuit board for proper operation."

## TPS54160DGQG4
designator U?
Buck Inverting Buck-Boost Step Down Regulator with 3.5 to 60 V Input and 0.8 to 58 V Output, -40 to 150 degC, 10-Pin MSOP-PowerPAD (DGQ), Green (RoHS & no Sb/Br); Manufacturer: Texas Instruments; PartNumber: TPS54160DGQG4; Duty Cycle(Max)(%): 98; Iout(Max)(A): 1.5; Iq(Typ)(mA): 0.116; Rating: Catalog; Regulated Outputs(#): 1; SubFamily: Step-Down Regulator; Switch Current Limit(Typ)(A): 1.8; Topology: Buck, Inverting Buck-Boost; Vin(Max)(V): 60; Vin(Min)(V): 3.5; Vout(Max)(V): 58; Vout(Min)(V): 0.8; DatasheetVersion: SLVS795D; PackageVersion: revF, Nov-2011; PackageReference: DGQ10-1675X1445TP; PackageDescription: 10-Pin PowerPAD Plastic Small Outline 0.5 mm Pitch, Exposed Pad; Supplier 1: Digi-Key; Supplier Part Number 1: TPS54160DGQG4-ND; Eco-Plan: Green (RoHS & no Sb/Br); Mounting Technology: Surface Mount; Code_JEDEC: MO-187-BA-T; ComponentLink1Description: Datasheet; ComponentLink1URL: http://www.ti.com/general/docs/lit/getliterature.tsp?genericPartNumber=TPS54160&fileType=pdf; ComponentLink2Description: Package Specification; ComponentLink2URL: http://www.ti.com/lit/ml/mpds043e/mpds043e.pdf; ComponentLink3Description: URL Link1; ComponentLink3URL: Samples URL:http://www.ti.com/product/tps54160#samples
footprint DGQ10-1675X1445TP_N (TSSOP, 10-Leads, Body 3x3mm, Pitch 0.5mm, Thermal Pad 1.88x1.57mm, IPC Medium Density)
footprint DGQ10-1675X1445TP_L (TSSOP, 10-Leads, Body 3x3mm, Pitch 0.5mm, Thermal Pad 1.88x1.57mm, IPC High Density)
footprint DGQ10-1675X1445TP_M (TSSOP, 10-Leads, Body 3x3mm, Pitch 0.5mm, Thermal Pad 1.88x1.57mm, IPC Low Density)
pins: 1 BOOT "A bootstrap capacitor is required between BOOT and PH. If the voltage on this capacitor is below the minimum required by the output device, the output is forced to switch off until the capacitor is refreshed.", 2 VIN (power) "Input supply voltage, 3.5 V to 60 V.", 3 EN (in) "Enable pin, internal pull-up current source. Pull below 1.2V to disable. Float to enable. Adjust the input undervoltage lockout with two resistors.", 4 SS/TR (in) "Slow-start and Tracking. An external capacitor connected to this pin sets the output rise time. Since the voltage on this pin overrides the internal reference, it can be used for tracking and sequencing.", 5 RT/CLK (in) "Resistor Timing and External Clock. An internal amplifier holds this pin at a fixed voltage when using an external resistor to ground to set the switching frequency. If the pin is pulled above the PLL upper threshold, a mode (See Datasheet)", 6 PWRGD (oc) "An open drain output, asserts low if output voltage is low due to thermal shutdown, dropout, over-voltage or EN shut down.", 7 VSENSE (in) "Inverting node of the transconductance ( gm) error amplifier.", 8 COMP "Error amplifier output, and input to the output switch current comparator. Connect frequency compensation components to this pin.", 9 GND (power) "Ground pin. Power ground return for switching circuit. Connect sensitive SS and VFB returns to GND at a single point.", 10 PH (power) "The source of the internal high-side power MOSFET.", 11 TP (power) "GND pin must be electrically connected to the exposed pad on the printed circuit board for proper operation."

## TPS54160DGQR
designator U?
Buck Inverting Buck-Boost Step Down Regulator with 3.5 to 60 V Input and 0.8 to 58 V Output, -40 to 150 degC, 10-Pin MSOP-PowerPAD (DGQ), Green (RoHS & no Sb/Br); Manufacturer: Texas Instruments; PartNumber: TPS54160DGQR; Duty Cycle(Max)(%): 98; Iout(Max)(A): 1.5; Iq(Typ)(mA): 0.116; Rating: Catalog; Regulated Outputs(#): 1; SubFamily: Step-Down Regulator; Switch Current Limit(Typ)(A): 1.8; Topology: Buck, Inverting Buck-Boost; Vin(Max)(V): 60; Vin(Min)(V): 3.5; Vout(Max)(V): 58; Vout(Min)(V): 0.8; DatasheetVersion: SLVS795D; PackageVersion: revF, Nov-2011; PackageReference: DGQ10-1675X1445TP; PackageDescription: 10-Pin PowerPAD Plastic Small Outline 0.5 mm Pitch, Exposed Pad; Supplier 1: Digi-Key; Supplier Part Number 1: 296-26984-2-ND; Eco-Plan: Green (RoHS & no Sb/Br); Mounting Technology: Surface Mount; Code_JEDEC: MO-187-BA-T; ComponentLink1Description: Datasheet; ComponentLink1URL: http://www.ti.com/general/docs/lit/getliterature.tsp?genericPartNumber=TPS54160&fileType=pdf; ComponentLink2Description: Package Specification; ComponentLink2URL: http://www.ti.com/lit/ml/mpds043e/mpds043e.pdf; ComponentLink3Description: URL Link1; ComponentLink3URL: Samples URL:http://www.ti.com/product/tps54160#samples
footprint DGQ10-1675X1445TP_N (TSSOP, 10-Leads, Body 3x3mm, Pitch 0.5mm, Thermal Pad 1.88x1.57mm, IPC Medium Density)
footprint DGQ10-1675X1445TP_L (TSSOP, 10-Leads, Body 3x3mm, Pitch 0.5mm, Thermal Pad 1.88x1.57mm, IPC High Density)
footprint DGQ10-1675X1445TP_M (TSSOP, 10-Leads, Body 3x3mm, Pitch 0.5mm, Thermal Pad 1.88x1.57mm, IPC Low Density)
pins: 1 BOOT "A bootstrap capacitor is required between BOOT and PH. If the voltage on this capacitor is below the minimum required by the output device, the output is forced to switch off until the capacitor is refreshed.", 2 VIN (power) "Input supply voltage, 3.5 V to 60 V.", 3 EN (in) "Enable pin, internal pull-up current source. Pull below 1.2V to disable. Float to enable. Adjust the input undervoltage lockout with two resistors.", 4 SS/TR (in) "Slow-start and Tracking. An external capacitor connected to this pin sets the output rise time. Since the voltage on this pin overrides the internal reference, it can be used for tracking and sequencing.", 5 RT/CLK (in) "Resistor Timing and External Clock. An internal amplifier holds this pin at a fixed voltage when using an external resistor to ground to set the switching frequency. If the pin is pulled above the PLL upper threshold, a mode (See Datasheet)", 6 PWRGD (oc) "An open drain output, asserts low if output voltage is low due to thermal shutdown, dropout, over-voltage or EN shut down.", 7 VSENSE (in) "Inverting node of the transconductance ( gm) error amplifier.", 8 COMP "Error amplifier output, and input to the output switch current comparator. Connect frequency compensation components to this pin.", 9 GND (power) "Ground pin. Power ground return for switching circuit. Connect sensitive SS and VFB returns to GND at a single point.", 10 PH (power) "The source of the internal high-side power MOSFET.", 11 TP (power) "GND pin must be electrically connected to the exposed pad on the printed circuit board for proper operation."

## TPS54160DGQRG4
designator U?
Buck Inverting Buck-Boost Step Down Regulator with 3.5 to 60 V Input and 0.8 to 58 V Output, -40 to 150 degC, 10-Pin MSOP-PowerPAD (DGQ), Green (RoHS & no Sb/Br); Manufacturer: Texas Instruments; PartNumber: TPS54160DGQRG4; Duty Cycle(Max)(%): 98; Iout(Max)(A): 1.5; Iq(Typ)(mA): 0.116; Rating: Catalog; Regulated Outputs(#): 1; SubFamily: Step-Down Regulator; Switch Current Limit(Typ)(A): 1.8; Topology: Buck, Inverting Buck-Boost; Vin(Max)(V): 60; Vin(Min)(V): 3.5; Vout(Max)(V): 58; Vout(Min)(V): 0.8; DatasheetVersion: SLVS795D; PackageVersion: revF, Nov-2011; PackageReference: DGQ10-1675X1445TP; PackageDescription: 10-Pin PowerPAD Plastic Small Outline 0.5 mm Pitch, Exposed Pad; Supplier 1: Digi-Key; Supplier Part Number 1: TPS54160DGQRG4-ND; Eco-Plan: Green (RoHS & no Sb/Br); Mounting Technology: Surface Mount; Code_JEDEC: MO-187-BA-T; ComponentLink1Description: Datasheet; ComponentLink1URL: http://www.ti.com/general/docs/lit/getliterature.tsp?genericPartNumber=TPS54160&fileType=pdf; ComponentLink2Description: Package Specification; ComponentLink2URL: http://www.ti.com/lit/ml/mpds043e/mpds043e.pdf; ComponentLink3Description: URL Link1; ComponentLink3URL: Samples URL:http://www.ti.com/product/tps54160#samples
footprint DGQ10-1675X1445TP_N (TSSOP, 10-Leads, Body 3x3mm, Pitch 0.5mm, Thermal Pad 1.88x1.57mm, IPC Medium Density)
footprint DGQ10-1675X1445TP_L (TSSOP, 10-Leads, Body 3x3mm, Pitch 0.5mm, Thermal Pad 1.88x1.57mm, IPC High Density)
footprint DGQ10-1675X1445TP_M (TSSOP, 10-Leads, Body 3x3mm, Pitch 0.5mm, Thermal Pad 1.88x1.57mm, IPC Low Density)
pins: 1 BOOT "A bootstrap capacitor is required between BOOT and PH. If the voltage on this capacitor is below the minimum required by the output device, the output is forced to switch off until the capacitor is refreshed.", 2 VIN (power) "Input supply voltage, 3.5 V to 60 V.", 3 EN (in) "Enable pin, internal pull-up current source. Pull below 1.2V to disable. Float to enable. Adjust the input undervoltage lockout with two resistors.", 4 SS/TR (in) "Slow-start and Tracking. An external capacitor connected to this pin sets the output rise time. Since the voltage on this pin overrides the internal reference, it can be used for tracking and sequencing.", 5 RT/CLK (in) "Resistor Timing and External Clock. An internal amplifier holds this pin at a fixed voltage when using an external resistor to ground to set the switching frequency. If the pin is pulled above the PLL upper threshold, a mode (See Datasheet)", 6 PWRGD (oc) "An open drain output, asserts low if output voltage is low due to thermal shutdown, dropout, over-voltage or EN shut down.", 7 VSENSE (in) "Inverting node of the transconductance ( gm) error amplifier.", 8 COMP "Error amplifier output, and input to the output switch current comparator. Connect frequency compensation components to this pin.", 9 GND (power) "Ground pin. Power ground return for switching circuit. Connect sensitive SS and VFB returns to GND at a single point.", 10 PH (power) "The source of the internal high-side power MOSFET.", 11 TP (power) "GND pin must be electrically connected to the exposed pad on the printed circuit board for proper operation."

## TPS54228D
designator U?
Buck Step Down Regulator with 4.5 to 18 V Input and 0.76 to 7 V Output, -40 to 85 degC, 8-Pin SOIC (D), Green (RoHS & no Sb/Br); Manufacturer: Texas Instruments; PartNumber: TPS54228D; Duty Cycle(Max)(%): 90; Iout(Max)(A): 2; Iq(Typ)(mA): 0.8; Rating: Catalog; Regulated Outputs(#): 1; SubFamily: Step-Down Regulator; Switch Current Limit(Typ)(A): 3.3; Synchronous Rectification: TRUE; Vin(Max)(V): 18; Vin(Min)(V): 4.5; Vout(Max)(V): 7; Vout(Min)(V): 0.76; DatasheetVersion: SLVSAU1C; PackageVersion: revM, Jun-2011; PackageReference: D8; PackageDescription: 8-Pin Plastic Small Outline Integrated Circuit, 4.9 x 3.9 mm, Pitch 1.27 mm Pitch; Supplier 1: Digi-Key; Supplier Part Number 1: 296-30158-5-ND; Eco-Plan: Green (RoHS & no Sb/Br); Topology: Buck; Mounting Technology: Surface Mount; Code_JEDEC: MS-012AA; ComponentLink1Description: Datasheet; ComponentLink1URL: http://www.ti.com/general/docs/lit/getliterature.tsp?genericPartNumber=TPS54228&fileType=pdf; ComponentLink2Description: Package Specification; ComponentLink2URL: http://www.ti.com/litv/pdf/msoi002j; ComponentLink3Description: URL Link1; ComponentLink3URL: Samples URL:http://www.ti.com/product/tps54228#samples
footprint D8_N (SOIC, 8-Leads, Body 4.9x3.9mm, Pitch 1.27mm, IPC Medium Density)
footprint D8_L (SOIC, 8-Leads, Body 4.9x3.9mm, Pitch 1.27mm, IPC High Density)
footprint D8_M (SOIC, 8-Leads, Body 4.9x3.9mm, Pitch 1.27mm, IPC Low Density)
pins: 1 EN (in) "Enable input control. EN is active high and must be pulled up to enable the device.", 2 VFB (in) "Converter feedback input. Connect to output voltage with feedback resistor divider.", 3 VREG5 (power) "5.5 V power supply output. A capacitor (typical 1 uF) should be connected to GND. VREG5 is not active when EN is low.", 4 SS (in) "Soft-start control. An external capacitor should be connected to GND.", 5 GND (power), 6 SW (power) "Switch node connection between high-side NFET and low-side NFET.", 7 VBST "Supply input for the high-side FET gate drive circuit. Connect 0.1uF capacitor between VBST and SW pins. An internal diode is connected between VREG5 and VBST.", 8 VIN (power) "Input voltage supply pin."

## TPS54228DR
designator U?
Buck Step Down Regulator with 4.5 to 18 V Input and 0.76 to 7 V Output, -40 to 85 degC, 8-Pin SOIC (D), Green (RoHS & no Sb/Br); Manufacturer: Texas Instruments; PartNumber: TPS54228DR; Duty Cycle(Max)(%): 90; Iout(Max)(A): 2; Iq(Typ)(mA): 0.8; Rating: Catalog; Regulated Outputs(#): 1; SubFamily: Step-Down Regulator; Switch Current Limit(Typ)(A): 3.3; Synchronous Rectification: TRUE; Vin(Max)(V): 18; Vin(Min)(V): 4.5; Vout(Max)(V): 7; Vout(Min)(V): 0.76; DatasheetVersion: SLVSAU1C; PackageVersion: revM, Jun-2011; PackageReference: D8; PackageDescription: 8-Pin Plastic Small Outline Integrated Circuit, 4.9 x 3.9 mm, Pitch 1.27 mm Pitch; Supplier 1: Digi-Key; Supplier Part Number 1: 296-30031-2-ND; Eco-Plan: Green (RoHS & no Sb/Br); Topology: Buck; Mounting Technology: Surface Mount; Code_JEDEC: MS-012AA; ComponentLink1Description: Datasheet; ComponentLink1URL: http://www.ti.com/general/docs/lit/getliterature.tsp?genericPartNumber=TPS54228&fileType=pdf; ComponentLink2Description: Package Specification; ComponentLink2URL: http://www.ti.com/litv/pdf/msoi002j; ComponentLink3Description: URL Link1; ComponentLink3URL: Samples URL:http://www.ti.com/product/tps54611#samples
footprint D8_N (SOIC, 8-Leads, Body 4.9x3.9mm, Pitch 1.27mm, IPC Medium Density)
footprint D8_L (SOIC, 8-Leads, Body 4.9x3.9mm, Pitch 1.27mm, IPC High Density)
footprint D8_M (SOIC, 8-Leads, Body 4.9x3.9mm, Pitch 1.27mm, IPC Low Density)
pins: 1 EN (in) "Enable input control. EN is active high and must be pulled up to enable the device.", 2 VFB (in) "Converter feedback input. Connect to output voltage with feedback resistor divider.", 3 VREG5 (power) "5.5 V power supply output. A capacitor (typical 1 uF) should be connected to GND. VREG5 is not active when EN is low.", 4 SS (in) "Soft-start control. An external capacitor should be connected to GND.", 5 GND (power), 6 SW (power) "Switch node connection between high-side NFET and low-side NFET.", 7 VBST "Supply input for the high-side FET gate drive circuit. Connect 0.1uF capacitor between VBST and SW pins. An internal diode is connected between VREG5 and VBST.", 8 VIN (power) "Input voltage supply pin."

## TPS54231D
designator U?
Buck Step Down Regulator with 3.5 to 28 V Input and 0.8 to 25 V Output, -40 to 150 degC, 8-Pin SOIC (D), Green (RoHS & no Sb/Br); Manufacturer: Texas Instruments; PartNumber: TPS54231D; Duty Cycle(Max)(%): 90; Iout(Max)(A): 2; Iq(Typ)(mA): 0.11; Rating: Catalog; Regulated Outputs(#): 1; SubFamily: Step-Down Regulator; Switch Current Limit(Typ)(A): 2.3; Vin(Max)(V): 28; Vin(Min)(V): 3.5; Vout(Max)(V): 25; Vout(Min)(V): 0.8; DatasheetVersion: SLUS851C; PackageVersion: revM, Jun-2011; PackageReference: D8; PackageDescription: 8-Pin Plastic Small Outline Integrated Circuit, 4.9 x 3.9 mm, Pitch 1.27 mm Pitch; Supplier 1: Digi-Key; Supplier Part Number 1: 296-24140-5-ND; Eco-Plan: Green (RoHS & no Sb/Br); Topology: Buck; Mounting Technology: Surface Mount; Code_JEDEC: MS-012AA; ComponentLink1Description: Datasheet; ComponentLink1URL: http://www.ti.com/general/docs/lit/getliterature.tsp?genericPartNumber=TPS54231&fileType=pdf; ComponentLink2Description: Package Specification; ComponentLink2URL: http://www.ti.com/litv/pdf/msoi002j; ComponentLink3Description: URL Link1; ComponentLink3URL: Samples URL:http://www.ti.com/product/tps54231#samples
footprint D8_N (SOIC, 8-Leads, Body 4.9x3.9mm, Pitch 1.27mm, IPC Medium Density)
footprint D8_L (SOIC, 8-Leads, Body 4.9x3.9mm, Pitch 1.27mm, IPC High Density)
footprint D8_M (SOIC, 8-Leads, Body 4.9x3.9mm, Pitch 1.27mm, IPC Low Density)
pins: 1 BOOT "A 0.1 uF bootstrap capacitor is required between BOOT and PH. If the voltage on this capacitor falls below the minimum requirement, the high-side MOSFET is forced to switch off until the capacitor is refreshed.", 2 VIN (power) "Input supply voltage, 3.5 V to 28 V.", 3 EN (in) "Enable pin. Pull below 1.25 V to disable. Float to enable. Programming the input undervoltage lockout with two resistors is recommended.", 4 SS (in) "Slow start pin. An external capacitor connected to this pin sets the output rise time.", 5 VSENSE (in) "Inverting node of the gm error amplifier.", 6 COMP "Error amplifier output, and input to the PWM comparator. Connect frequency compensation components to this pin.", 7 GND (power) "Ground.", 8 PH (power) "The source of the internal high-side power MOSFET"